# Altium integrated library DRV8873SPWPRQ1.IntLib: 1 symbol
Pins are listed as number, name and electrical type; pins without a type are passive.

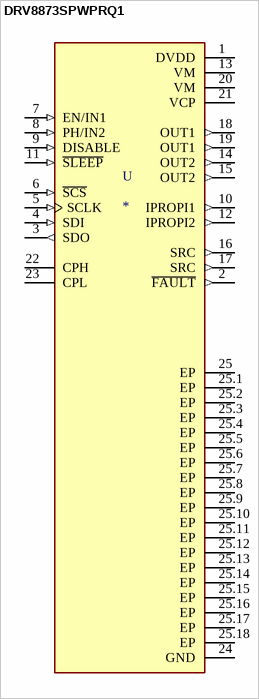
[diagram p0: symbol DRV8873SPWPRQ1]

## DRV8873SPWPRQ1
designator U
Unipolar Motor Driver NMOS SPI 24-HTSSOP; MP: DRV8873SPWPRQ1; MF: Texas Instruments; SnapEDA_Link: https://www.snapeda.com/parts/DRV8873SPWPRQ1/Texas%20Instruments/view-part/3119548/?ref=snap; Availability: Unavailable; Package: VFQFN-48 Texas Instruments; Price: None; Value: *
footprint IC_DRV8873SPWPRQ1
pins: 1 DVDD (power), 2 ~{FAULT} (out), 3 SDO (out), 4 SDI (in), 5 SCLK (in), 6 ~{SCS} (in), 7 EN/IN1 (in), 8 PH/IN2 (in), 9 DISABLE (in), 10 IPROPI1 (out), 11 ~{SLEEP} (in), 12 IPROPI2 (out), 13 VM (power), 14 OUT2 (out), 15 OUT2 (out), 16 SRC (out), 17 SRC (out), 18 OUT1 (out), 19 OUT1 (out), 20 VM (power), 21 VCP (power), 22 CPH, 23 CPL, 24 GND (power), 25 EP (power), 25.1 EP (power), 25.2 EP (power), 25.3 EP (power), 25.4 EP (power), 25.5 EP (power), 25.6 EP (power), 25.7 EP (power), 25.8 EP (power), 25.9 EP (power), 25.10 EP (power), 25.11 EP (power), 25.12 EP (power), 25.13 EP (power), 25.14 EP (power), 25.15 EP (power), 25.16 EP (power), 25.17 EP (power), 25.18 EP (power)